# EAGLE library part DS1306 (library RTC)
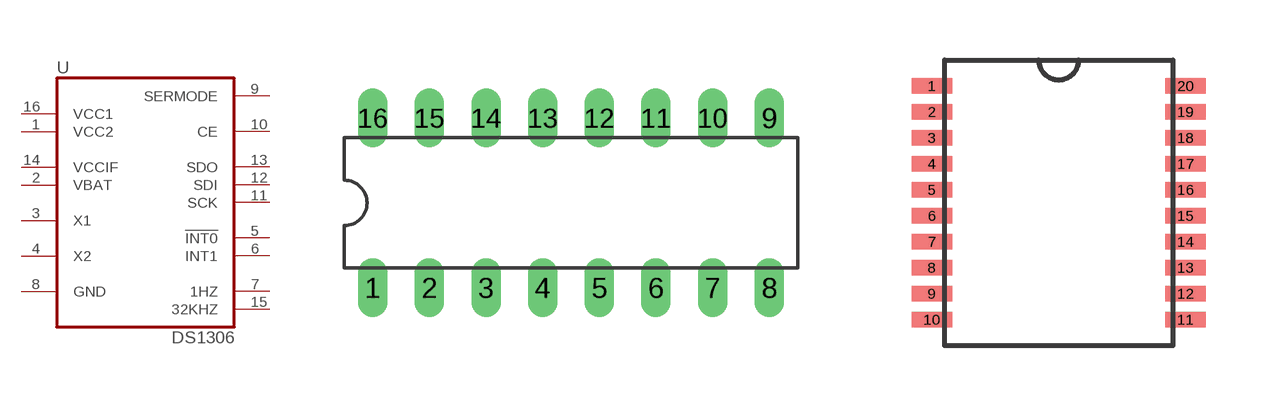
[diagram p0: symbol with the pads of DIL16; footprints DIL16, TSSOP20]

Designator prefix -

## DS1306DIP  [DIL16]
1  VCC2  in
2  VBAT  in
3  X1  in
4  X2  in
5  !INT0  in
6  INT1  in
7  1HZ  in
8  GND  out
9  SERMODE
10  CE
11  SCK  out
12  SDI  out
13  SDO  out
14  VCCIF  out
15  32KHZ  out
16  VCC1  out

## DS1306TSSOP  [TSSOP20]
1  VCC2  in
2  VBAT  in
3  X1  in
5  X2  in
7  !INT0  in
8  INT1  in
9  1HZ  in
10  GND  out
11  SERMODE
12  CE
14  SCK  out
15  SDI  out
16  SDO  out
17  VCCIF  out
18  32KHZ  out
20  VCC1  out

## Footprint DIL16 (pad centres in mm)
Dual In Line Package
drill 0.813 long: 1 -8.89,-3.81; 2 -6.35,-3.81; 3 -3.81,-3.81; 4 -1.27,-3.81; 5 1.27,-3.81; 6 3.81,-3.81; 7 6.35,-3.81; 8 8.89,-3.81; 9 8.89,3.81; 10 6.35,3.81; 11 3.81,3.81; 12 1.27,3.81; 13 -1.27,3.81; 14 -3.81,3.81; 15 -6.35,3.81; 16 -8.89,3.81

## Footprint TSSOP20 (pad centres in mm)
smd 1.016 x 0.381: 1 -3.171,5.85; 2 -3.171,5.2; 3 -3.171,4.55; 4 -3.171,3.9; 5 -3.171,3.25; 6 -3.171,2.6; 7 -3.171,1.95; 8 -3.171,1.3; 9 -3.171,0.65; 10 -3.171,0; 11 3.171,0; 12 3.171,0.65; 13 3.171,1.3; 14 3.171,1.95; 15 3.171,2.6; 16 3.171,3.25; 17 3.171,3.9; 18 3.171,4.55; 19 3.171,5.2; 20 3.171,5.85